# Altium footprint library SOD-123.PcbLib: 1 footprints
Each footprint in its own frame and in the unit in brackets; x right, y up, seen from the top. Pads: shape width x height; smd on the part's side, far side on the other; paste and mask are expansions set on the pad; w line width, h text height; cw(c..) or ccw(c..) is an arc to the next point about the centre after c.
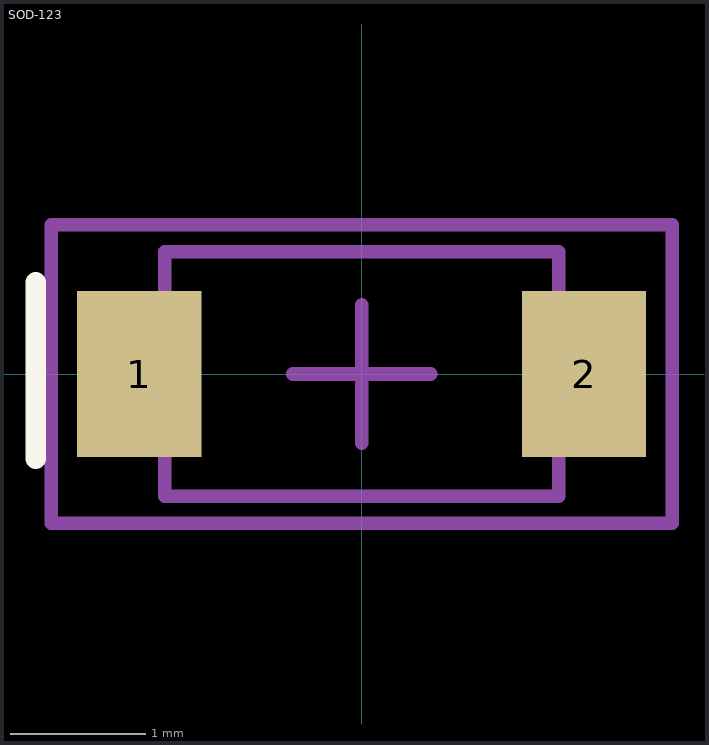
[diagram p0: the footprint, top view; thin cyan lines are the x and y axes]

## SOD-123 [mm]
pads (2):
  rect 0.915x1.22 smd: 1(-1.637,0) 2(1.637,0)
Top Overlay:
  lines w0.15: -2.4,-0.625 -2.4,0.675
Mechanical 13:
  lines w0.1: -1.45,-0.9 -1.45,0.9 1.45,0.9 1.45,-0.9 -1.45,-0.9
Mechanical 15:
  lines w0.1: -0.508,0 0.508,0 ; 0,-0.508 0,0.508 ; -2.286,-1.1 2.286,-1.1 2.286,1.1 -2.286,1.1 -2.286,-1.1
Mechanical 29:
  lines w0.1: -2.286,-1.1 -2.286,1.1 2.286,1.1 2.286,-1.1 -2.286,-1.1
  text ".Designator" at -0.762,-0.508 h1.52
3D body: height 1.42, standoff -0.03, extent -1.93,-0.85 1.92,0.85